# Altium footprint library JACK_AUB-13.PcbLib: 1 footprints
Each footprint in its own frame and in the unit in brackets; x right, y up, seen from the top. Pads: shape width x height; smd on the part's side, far side on the other; paste and mask are expansions set on the pad; w line width, h text height; cw(c..) or ccw(c..) is an arc to the next point about the centre after c.
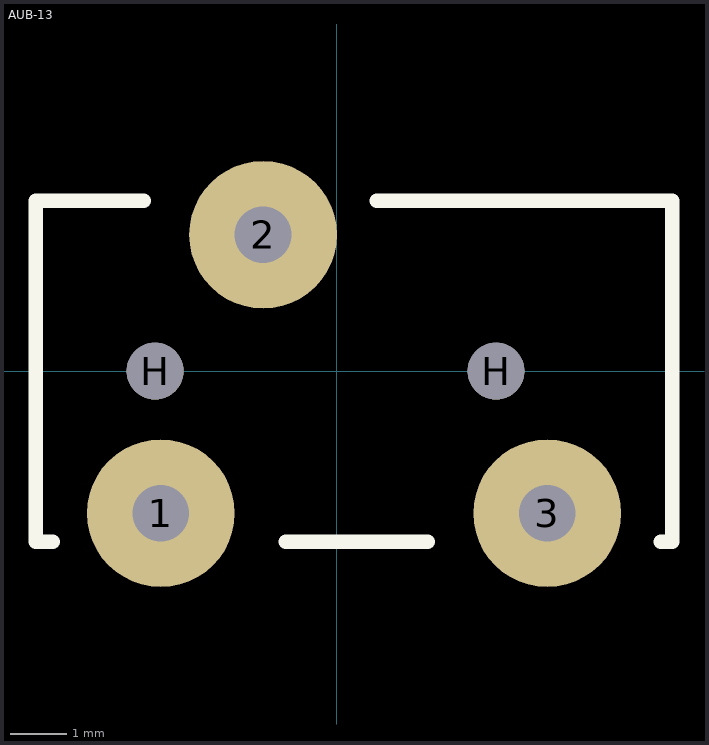
[diagram p0: the footprint, top view; thin cyan lines are the x and y axes]

## AUB-13 [mm] "Stereo jack socket 3,5mm"
height 5.6
pads (5):
  round 2.6 hole 1: 1(-3.1,-2.5) 2(-1.3,2.4) 3(3.7,-2.5)
  round 1 hole 1 unplated: H(-3.2,0) H(2.8,0)
Top Overlay:
  lines w0.254: -5,-3 -5.3,-3 -5.3,3 -3.4,3 ; -0.9,-3 1.6,-3 ; 0.7,3 5.9,3 5.9,-3 5.7,-3
3D body "User Library-1501-03.step": height 4.25, standoff -2.5, extent -6.3,-2.5 4.7,2.5